# EAGLE library part ADS114S08BIPBS (library ADS114S08BIPBS)
16-Bit, 4kSPS, 12-Ch Delta-Sigma ADC With PGA and Voltage Reference for Low-Cost Applications Source: Datasheet <http://www.ti.com/lit/ds/symlink/ads114s06b.pdf>
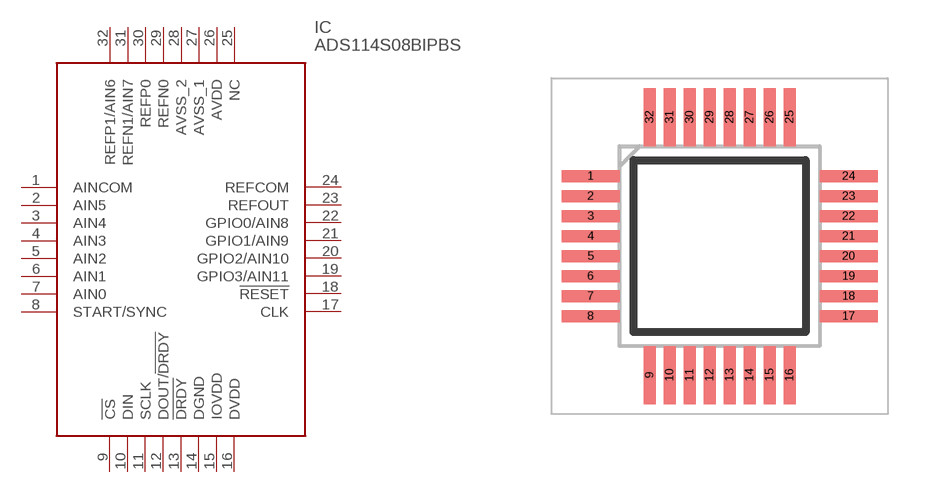
[diagram p0: symbol with the pads of QFP50P700X700X120-32N; footprint QFP50P700X700X120-32N]

Designator prefix IC

## ADS114S08BIPBS (Description: 16-Bit, 4kSPS, 12-Ch Delta-Sigma ADC With PGA and Voltage Reference for Low-Cost Applications; Height: 1.2mm; Manufacturer_Name: Texas Instruments; Manufacturer_Part_Number: ADS114S08BIPBS; Mouser_Part_Number: 595-ADS114S08BIPBS; Mouser_Price-Stock: https://www.mouser.co.uk/ProductDetail/Texas-Instruments/ADS114S08BIPBS?qs=BZBei1rCqCDQBH%2FvFX3yrQ%3D%3D)  [QFP50P700X700X120-32N]
1  AINCOM
2  AIN5
3  AIN4
4  AIN3
5  AIN2
6  AIN1
7  AIN0
8  START/SYNC
9  !CS
10  DIN
11  SCLK
12  DOUT/!DRDY
13  !DRDY
14  DGND
15  IOVDD
16  DVDD
17  CLK
18  !RESET
19  GPIO3/AIN11
20  GPIO2/AIN10
21  GPIO1/AIN9
22  GPIO0/AIN8
23  REFOUT
24  REFCOM
25  NC  nc
26  AVDD
27  AVSS_1
28  AVSS_2
29  REFN0
30  REFP0
31  REFN1/AIN7
32  REFP1/AIN6

## Footprint QFP50P700X700X120-32N (pad centres in mm)
PBS (S-PQFP-G32)
smd 1.45 x 0.3: 1 -3.225,1.75; 2 -3.225,1.25; 3 -3.225,0.75; 4 -3.225,0.25; 5 -3.225,-0.25; 6 -3.225,-0.75; 7 -3.225,-1.25; 8 -3.225,-1.75; 17 3.225,-1.75; 18 3.225,-1.25; 19 3.225,-0.75; 20 3.225,-0.25; 21 3.225,0.25; 22 3.225,0.75; 23 3.225,1.25; 24 3.225,1.75
smd 0.3 x 1.45: 9 -1.75,-3.225; 10 -1.25,-3.225; 11 -0.75,-3.225; 12 -0.25,-3.225; 13 0.25,-3.225; 14 0.75,-3.225; 15 1.25,-3.225; 16 1.75,-3.225; 25 1.75,3.225; 26 1.25,3.225; 27 0.75,3.225; 28 0.25,3.225; 29 -0.25,3.225; 30 -0.75,3.225; 31 -1.25,3.225; 32 -1.75,3.225